# EAGLE library part MCP3201 (library ads4)
Microchip MCP3201 12-bit A/D converter with SPI interface
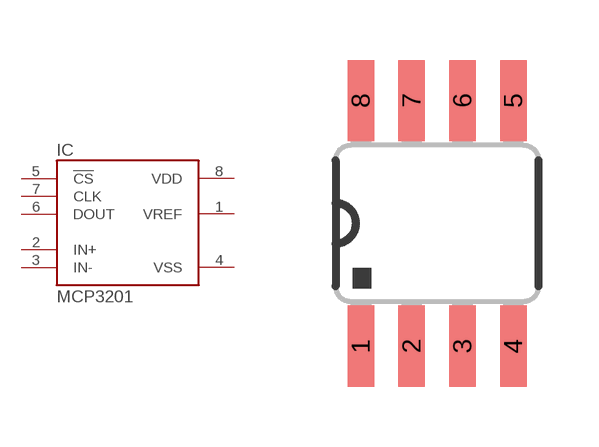
[diagram p72: symbol with the pads of SO08; footprint SO08]

Designator prefix IC

## MCP3201SN  [SO08]
1  VREF  pas
2  IN+  pas
3  IN-  pas
4  VSS  pwr
5  !CS  in
6  DOUT  hiz
7  CLK  in
8  VDD  pwr

## Footprint SO08 (pad centres in mm)
SO08 Package from 74xx-us.lbr 0.15" body
smd 0.66 x 2.032: 1 -1.905,-3.073; 2 -0.635,-3.073; 3 0.635,-3.073; 4 1.905,-3.073; 5 1.905,3.073; 6 0.635,3.073; 7 -0.635,3.073; 8 -1.905,3.073